# EAGLE library part TCA6416AZQSR (library ecad)
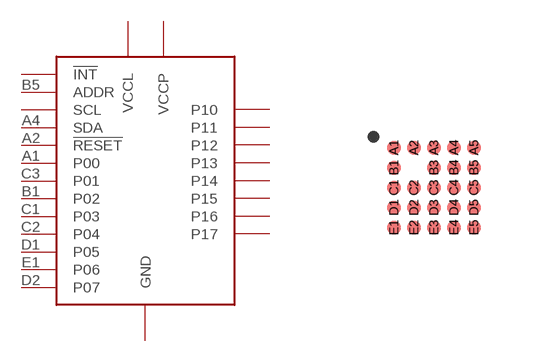
[diagram p0: symbol with the pads of 24_BUMP_ZQS; footprint 24_BUMP_ZQS]

Designator prefix U

## TCA6416AZQSR  [24_BUMP_ZQS]
A1  P00  pas
A2  !RESET  pas
A3  !INT  pas
A4  SDA  pas
A5  SCL  pas
B1  P02  pas
B3  VCCL  pas
B4  VCCP  pas
B5  ADDR  pas
C1  P03  pas
C2  P04  pas
C3  P01  pas
C4  P17  pas
C5  P16  pas
D1  P05  pas
D2  P07  pas
D3  P12  pas
D4  P14  pas
D5  P15  pas
E1  P06  pas
E2  GND  pas
E3  P10  pas
E4  P11  pas
E5  P13  pas

## Footprint 24_BUMP_ZQS (pad centres in mm)
smd 0.35 x 0.35: A1 -1,1; A2 -0.5,1; A3 0,1; A4 0.5,1; A5 1,1; B1 -1,0.5; B3 0,0.5; B4 0.5,0.5; B5 1,0.5; C1 -1,0; C2 -0.5,0; C3 0,0; C4 0.5,0; C5 1,0; D1 -1,-0.5; D2 -0.5,-0.5; D3 0,-0.5; D4 0.5,-0.5; D5 1,-0.5; E1 -1,-1; E2 -0.5,-1; E3 0,-1; E4 0.5,-1; E5 1,-1